# Altium schematic symbol library SAW8_2_6.Schlib: 1 symbol
Pins are listed as number, name and electrical type; pins without a type are passive.

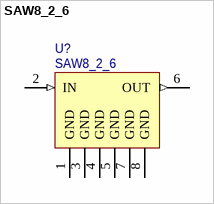
[diagram p0: symbol SAW8_2_6]

## SAW8_2_6
designator U?
pins: 1 GND (power), 2 IN (in), 3 GND (power), 4 GND (power), 5 GND (power), 6 OUT (out), 7 GND (power), 8 GND (power)